# Altium footprint library MotorControl.PcbLib: 7 footprints
Each footprint in its own frame and in the unit in brackets; x right, y up, seen from the top. Pads: shape width x height; smd on the part's side, far side on the other; paste and mask are expansions set on the pad; w line width, h text height; cw(c..) or ccw(c..) is an arc to the next point about the centre after c.
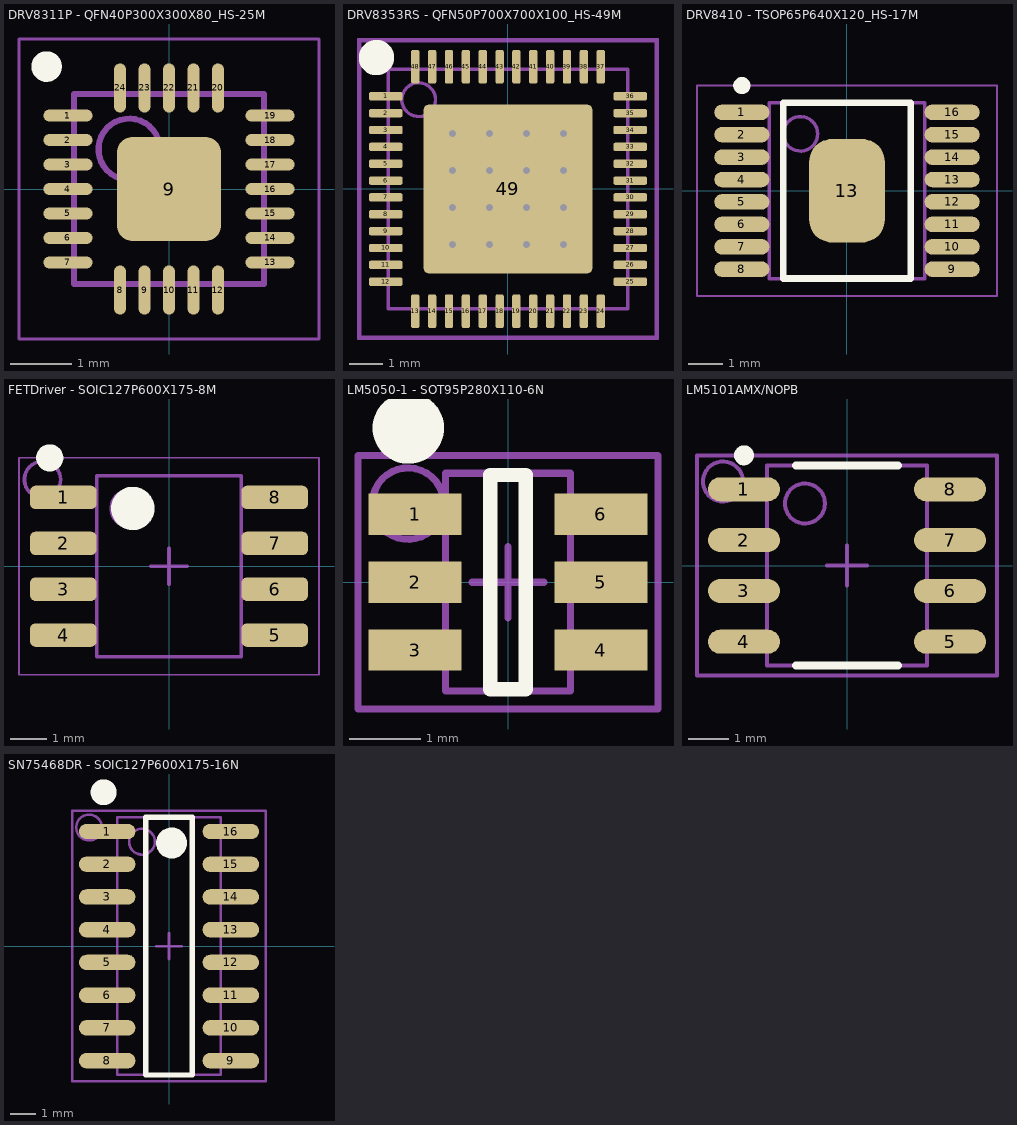
[diagram p0: the footprints below, top view; thin cyan lines are the x and y axes]

## DRV8311P - QFN40P300X300X80_HS-25M [mm] "QFN, 24-Leads, Body 3.00x3.00mm, Pitch 0.40mm, Thermal Pad 1.90x1.90mm, IPC Low Density"
height 0.8
pads (25):
  oval 0.8x0.2 smd paste-99 mask+0.05: 1(-1.65,1.2) 2(-1.65,0.8) 3(-1.65,0.4) 4(-1.65,0) 5(-1.65,-0.4) 6(-1.65,-0.8) 7(-1.65,-1.2) 13(1.65,-1.2) 14(1.65,-0.8) 15(1.65,-0.4) 16(1.65,0) 17(1.65,0.4) 18(1.65,0.8) 19(1.65,1.2)
  oval 0.2x0.8 smd paste-99 mask+0.05: 8(-0.8,-1.65) 9(-0.4,-1.65) 10(0,-1.65) 11(0.4,-1.65) 12(0.8,-1.65) 20(0.8,1.65) 21(0.4,1.65) 22(0,1.65) 23(-0.4,1.65) 24(-0.8,1.65)
  rrect30% 1.7x1.7 smd paste-99 mask+0.05: 9(0,0)
Top Overlay:
  circle w0.25: c-2,2 r0.125
Top Paste:
  lines w0.2: -1.9,-1.2 -1.6,-1.2 ; -1.9,-0.4 -1.6,-0.4 ; -1.9,0.4 -1.6,0.4 ; -1.9,1.2 -1.6,1.2 ; -1.7,-0.8 -1.4,-0.8 ; -1.7,0 -1.4,0 ; -1.7,0.8 -1.4,0.8 ; -0.8,-1.9 -0.8,-1.6 ; -0.8,1.6 -0.8,1.9 ; -0.4,-1.7 -0.4,-1.4 ; -0.4,1.4 -0.4,1.7 ; 0,-1.9 0,-1.6 ; 0,1.6 0,1.9 ; 0.4,-1.7 0.4,-1.4 ; 0.4,1.4 0.4,1.7 ; 0.8,-1.9 0.8,-1.6 ; 0.8,1.6 0.8,1.9 ; 1.4,-0.8 1.7,-0.8 ; 1.4,0 1.7,0 ; 1.4,0.8 1.7,0.8 ; 1.6,-1.2 1.9,-1.2 ; 1.6,-0.4 1.9,-0.4 ; 1.6,0.4 1.9,0.4 ; 1.6,1.2 1.9,1.2
  lines w0.6: -0.4,-0.4 -0.4,0.4 ; 0.4,-0.4 0.4,0.4
Mechanical 13:
  circle w0.1: c-0.65,0.65 r0.5
  lines w0.1: -1.55,-1.55 -1.55,1.55 1.55,1.55 1.55,-1.55 -1.55,-1.55
Mechanical 15:
  lines w0.05: -2.45,-2.45 -2.45,2.45 2.45,2.45 2.45,-2.45 -2.45,-2.45
  lines w0.1: -0.5,0 0.5,0 ; 0,-0.5 0,0.5
3D body: height 0.8, standoff 0, extent -1.55,-1.55 1.55,1.55

## DRV8353RS - QFN50P700X700X100_HS-49M [mm] "QFN, 48-Leads, Body 7.00x7.00mm, Pitch 0.50mm, Thermal Pad 5.00x5.00mm, IPC Low Density"
height 1
pads (49):
  rrect50% 1x0.25 smd paste-0.03 mask+0.07: 1(-3.625,2.75) 2(-3.625,2.25) 3(-3.625,1.75) 4(-3.625,1.25) 5(-3.625,0.75) 6(-3.625,0.25) 7(-3.625,-0.25) 8(-3.625,-0.75) 9(-3.625,-1.25) 10(-3.625,-1.75) 11(-3.625,-2.25) 12(-3.625,-2.75) 25(3.625,-2.75) 26(3.625,-2.25) 27(3.625,-1.75) 28(3.625,-1.25) 29(3.625,-0.75) 30(3.625,-0.25) 31(3.625,0.25) 32(3.625,0.75) 33(3.625,1.25) 34(3.625,1.75) 35(3.625,2.25) 36(3.625,2.75)
  rrect50% 0.25x1 smd paste-0.03 mask+0.07: 13(-2.75,-3.625) 14(-2.25,-3.625) 15(-1.75,-3.625) 16(-1.25,-3.625) 17(-0.75,-3.625) 18(-0.25,-3.625) 19(0.25,-3.625) 20(0.75,-3.625) 21(1.25,-3.625) 22(1.75,-3.625) 23(2.25,-3.625) 24(2.75,-3.625) 37(2.75,3.625) 38(2.25,3.625) 39(1.75,3.625) 40(1.25,3.625) 41(0.75,3.625) 42(0.25,3.625) 43(-0.25,3.625) 44(-0.75,3.625) 45(-1.25,3.625) 46(-1.75,3.625) 47(-2.25,3.625) 48(-2.75,3.625)
  rrect5% 5x5 smd paste-99: 49(0,0)
via -1.65,1.65 diameter 0.5 hole 0.2
via -0.55,1.65 diameter 0.5 hole 0.2
via 0.55,1.65 diameter 0.5 hole 0.2
via 1.65,1.65 diameter 0.5 hole 0.2
via -1.65,0.55 diameter 0.5 hole 0.2
via -0.55,0.55 diameter 0.5 hole 0.2
via 0.55,0.55 diameter 0.5 hole 0.2
via 1.65,0.55 diameter 0.5 hole 0.2
via -1.65,-0.55 diameter 0.5 hole 0.2
via -0.55,-0.55 diameter 0.5 hole 0.2
via 0.55,-0.55 diameter 0.5 hole 0.2
via 1.65,-0.55 diameter 0.5 hole 0.2
via -1.65,-1.65 diameter 0.5 hole 0.2
via -0.55,-1.65 diameter 0.5 hole 0.2
via 0.55,-1.65 diameter 0.5 hole 0.2
via 1.65,-1.65 diameter 0.5 hole 0.2
Top Overlay:
  circle w0.8: c-3.9,3.9 r0.125
Top Paste:
  rectangle: 0.9,0.9 2.3,2.3
  rectangle: -0.7,0.9 0.7,2.3
  rectangle: -2.3,0.9 -0.9,2.3
  rectangle: -2.3,-0.7 -0.9,0.7
  rectangle: -0.7,-0.7 0.7,0.7
  rectangle: 0.9,-0.7 2.3,0.7
  rectangle: -2.3,-2.3 -0.9,-0.9
  rectangle: -0.7,-2.3 0.7,-0.9
  rectangle: 0.9,-2.3 2.3,-0.9
Mechanical 13:
  circle w0.1: c-2.65,2.65 r0.5
  lines w0.1: -3.55,-3.55 -3.55,3.55 3.55,3.55 3.55,-3.55 -3.55,-3.55
Mechanical 15:
  lines w0.05: -4.45,-4.45 -4.45,4.45 4.45,4.45 4.45,-4.45 -4.45,-4.45
  lines w0.1: -0.5,0 0.5,0 ; 0,-0.5 0,0.5
Assembly:
  lines w0.1: -4.4,-4.4 -4.4,4.4 4.4,4.4 4.4,-4.4 -4.4,-4.4
  text ".Designator" at -2.1,-0.3 h1.1
3D body: height 1, standoff 0.05, extent -3.55,-3.55 3.55,3.55

## DRV8410 - TSOP65P640X120_HS-17M [mm] "TSOP, 16-Leads, Body 5.00x4.40mm, Pitch 0.65mm, Thermal Pad 3.30x2.50mm, IPC Low Density"
height 1.2
pads (17):
  oval 1.6x0.45 smd paste-0.04 mask+0.05: 1(-3.05,2.275) 2(-3.05,1.625) 3(-3.05,0.975) 4(-3.05,0.325) 5(-3.05,-0.325) 6(-3.05,-0.975) 7(-3.05,-1.625) 8(-3.05,-2.275) 9(3.05,-2.275) 10(3.05,-1.625) 11(3.05,-0.975) 12(3.05,-0.325) 13(3.05,0.325) 14(3.05,0.975) 15(3.05,1.625) 16(3.05,2.275)
  rrect60% 2.2x3 smd paste-99: 13(0,0)
Top Overlay:
  circle w0.25: c-3.05,3.05 r0.125
  lines w0.2: -1.85,-2.55 -1.85,2.55 1.85,2.55 1.85,-2.55 -1.85,-2.55
Top Paste:
  lines w0.7: -0.6,-0.5 0.6,-0.5 ; -0.6,0.5 0.6,0.5
Mechanical 13:
  circle w0.1: c-1.35,1.65 r0.5
  lines w0.1: -2.25,-2.55 -2.25,2.55 2.25,2.55 2.25,-2.55 -2.25,-2.55
Mechanical 15:
  lines w0.05: -4.35,-3.05 -4.35,3.05 4.35,3.05 4.35,-3.05 -4.35,-3.05
  lines w0.1: -0.5,0 0.5,0 ; 0,-0.5 0,0.5
3D body: height 1.2, standoff 0.05, extent -2.25,-2.55 2.25,2.55

## FETDriver - SOIC127P600X175-8M [mm] "SOIC, 8-Leads, Body 4.90x3.90mm, Pitch 1.27mm, IPC Low Density"
height 1.75
pads (8):
  rrect50% 1.85x0.65 smd paste-0.026: 1(-2.925,1.905) 2(-2.925,0.635) 3(-2.925,-0.635) 4(-2.925,-1.905) 5(2.925,-1.905) 6(2.925,-0.635) 7(2.925,0.635) 8(2.925,1.905)
Top Overlay:
  circle w0.5: c-3.3,3 r0.125
  circle w0.6: c-1,1.6 r0.3
Mechanical 13:
  circle w0.1: c-1.1,1.6 r0.5
  lines w0.1: -2,-2.5 -2,2.5 2,2.5 2,-2.5 -2,-2.5
Mechanical 15:
  lines w0.05: -4.15,-3 -4.15,3 4.15,3 4.15,-3 -4.15,-3
  lines w0.1: -0.5,0 0.5,0 ; 0,-0.5 0,0.5
Assembly:
  circle w0.1: c-3.5,2.4 r0.5
  lines w0.05: -4.15,-3 4.15,-3 4.15,3 -4.15,3 -4.15,-3
  text ".Designator" at -2.5,-0.3 h1.1
3D body: height 1.75, standoff 0.1, extent -2,-2.5 2,2.5

## LM5050-1 - SOT95P280X110-6N [mm] "SOT23, 6-Leads, Body 3.0x3.0mm (max), Pitch 0.95mm, IPC Medium Density"
height 1.1
pads (6):
  rect 1.3x0.58 smd paste-0.025: 1(-1.3,0.95) 2(-1.3,0) 3(-1.3,-0.95) 4(1.3,-0.95) 5(1.3,0) 6(1.3,0.95)
Top Overlay:
  circle w0.75: c-1.395,2.159 r0.125
  lines w0.2: -0.25,-1.5 0.25,-1.5 0.25,1.5 -0.25,1.5 -0.25,-1.5
Mechanical 13:
  lines w0.1: -0.875,-1.525 -0.875,1.525 0.875,1.525 0.875,-1.525 -0.875,-1.525
Mechanical 15:
  lines w0.1: -0.5,0 0.5,0 ; 0,-0.5 0,0.5 ; -2.1,-1.775 -2.1,1.775 2.1,1.775 2.1,-1.775 -2.1,-1.775
Assembly:
  circle w0.1: c-1.4,1.1 r0.5
  lines w0.1: -2.1,-1.775 2.1,-1.775 2.1,1.775 -2.1,1.775 -2.1,-1.775
  text ".Designator" at -2,-0.3 h1.1
3D body: height 1.1, standoff 0, extent -0.875,-1.525 0.875,1.525

## LM5101AMX/NOPB [mm] "SOIC, 8-Leads, Body 5.0x4.0mm (max), Pitch 1.27mm, IPC Medium Density"
height 1.75
pads (8):
  oval 1.8x0.6 smd: 1(-2.575,1.905) 2(-2.575,0.635) 3(-2.575,-0.635) 4(-2.575,-1.905) 5(2.575,-1.905) 6(2.575,-0.635) 7(2.575,0.635) 8(2.575,1.905)
Top Overlay:
  circle w0.25: c-2.575,2.755 r0.125
  lines w0.2: -1.275,-2.5 1.275,-2.5 ; -1.275,2.5 1.275,2.5
Mechanical 13:
  circle w0.1: c-1.05,1.55 r0.5
  lines w0.1: -2,-2.5 2,-2.5 2,2.5 -2,2.5 -2,-2.5
Mechanical 15:
  lines w0.1: -0.5,0 0.5,0 ; 0,-0.5 0,0.5 ; -3.75,-2.75 3.75,-2.75 3.75,2.75 -3.75,2.75 -3.75,-2.75
Assembly:
  circle w0.1: c-3.1,2.1 r0.5
  lines w0.1: -3.75,-2.75 -3.75,2.75 3.75,2.75 3.75,-2.75 -3.75,-2.75
  text ".Designator" at -2.1,-0.3 h1.1
3D body: height 1.75, standoff 0.03, extent -2,-2.5 2,2.5

## SN75468DR - SOIC127P600X175-16N [mm] "SOIC, 16-Leads, Body 10.0x4.0mm (max), Pitch 1.27mm, IPC Medium Density"
height 1.75
pads (16):
  oval 2.2x0.6 smd: 1(-2.4,4.445) 2(-2.4,3.175) 3(-2.4,1.905) 4(-2.4,0.635) 5(-2.4,-0.635) 6(-2.4,-1.905) 7(-2.4,-3.175) 8(-2.4,-4.445) 9(2.4,-4.445) 10(2.4,-3.175) 11(2.4,-1.905) 12(2.4,-0.635) 13(2.4,0.635) 14(2.4,1.905) 15(2.4,3.175) 16(2.4,4.445)
Top Overlay:
  circle w0.75: c-2.538,5.969 r0.125
  circle w0.6: c0.1,4 r0.3
  lines w0.2: -0.9,-5 -0.9,5 0.9,5 0.9,-5 -0.9,-5
Mechanical 13:
  circle w0.1: c-1.05,4.05 r0.5
  lines w0.1: -2,-5 -2,5 2,5 2,-5 -2,-5
Mechanical 15:
  lines w0.1: -0.5,0 0.5,0 ; 0,-0.5 0,0.5 ; -3.75,-5.25 -3.75,5.25 3.75,5.25 3.75,-5.25 -3.75,-5.25
Assembly:
  circle w0.1: c-3.1,4.6 r0.5
  lines w0.1: -3.75,-5.25 3.75,-5.25 3.75,5.25 -3.75,5.25 -3.75,-5.25
  text ".Designator" at 0.2,-2.1 h1.1
3D body: height 1.75, standoff 0.1, extent -2,-5 2,5